# EAGLE library part CHIP_PRO_SMT (library CHIP_Pro-Footprint)
Advanced C.H.I.P Pro footprint, optimized for machine assembly, or reflow SMT. Short pads not recommended for hand-soldering.
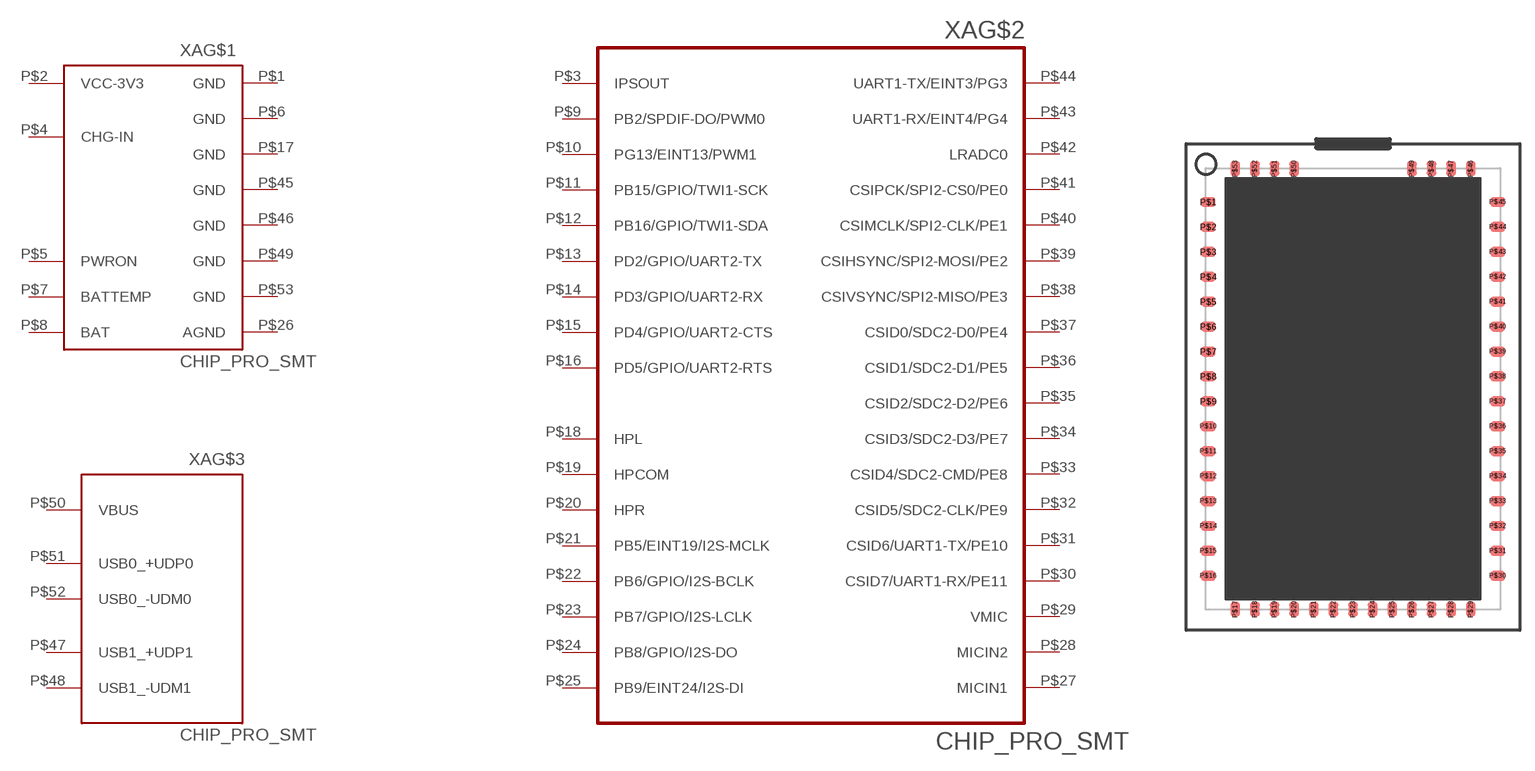
[diagram p1: symbol with the pads of CHIP_PRO_SMT; footprint CHIP_PRO_SMT]

Designator prefix XA; gates G$1=CHIPPRO-A G$2=CHIPPRO-B G$3=CHIPPRO-C

## CHIP_PRO_SMT*  [CHIP_PRO_SMT]
P$1  G$1:GND
P$2  G$1:VCC-3V3
P$3  G$2:IPSOUT
P$4  G$1:CHG-IN
P$5  G$1:PWRON
P$6  G$1:GND
P$7  G$1:BATTEMP
P$8  G$1:BAT
P$9  G$2:PB2/SPDIF-DO/PWM0
P$10  G$2:PG13/EINT13/PWM1
P$11  G$2:PB15/GPIO/TWI1-SCK
P$12  G$2:PB16/GPIO/TWI1-SDA
P$13  G$2:PD2/GPIO/UART2-TX
P$14  G$2:PD3/GPIO/UART2-RX
P$15  G$2:PD4/GPIO/UART2-CTS
P$16  G$2:PD5/GPIO/UART2-RTS
P$17  G$1:GND
P$18  G$2:HPL
P$19  G$2:HPCOM
P$20  G$2:HPR
P$21  G$2:PB5/EINT19/I2S-MCLK
P$22  G$2:PB6/GPIO/I2S-BCLK
P$23  G$2:PB7/GPIO/I2S-LCLK
P$24  G$2:PB8/GPIO/I2S-DO
P$25  G$2:PB9/EINT24/I2S-DI
P$26  G$1:AGND
P$27  G$2:MICIN1
P$28  G$2:MICIN2
P$29  G$2:VMIC
P$30  G$2:CSID7/UART1-RX/PE11
P$31  G$2:CSID6/UART1-TX/PE10
P$32  G$2:CSID5/SDC2-CLK/PE9
P$33  G$2:CSID4/SDC2-CMD/PE8
P$34  G$2:CSID3/SDC2-D3/PE7
P$35  G$2:CSID2/SDC2-D2/PE6
P$36  G$2:CSID1/SDC2-D1/PE5
P$37  G$2:CSID0/SDC2-D0/PE4
P$38  G$2:CSIVSYNC/SPI2-MISO/PE3
P$39  G$2:CSIHSYNC/SPI2-MOSI/PE2
P$40  G$2:CSIMCLK/SPI2-CLK/PE1
P$41  G$2:CSIPCK/SPI2-CS0/PE0
P$42  G$2:LRADC0
P$43  G$2:UART1-RX/EINT4/PG4
P$44  G$2:UART1-TX/EINT3/PG3
P$45  G$1:GND
P$46  G$1:GND
P$47  G$3:USB1_+UDP1
P$48  G$3:USB1_-UDM1
P$49  G$1:GND
P$50  G$3:VBUS
P$51  G$3:USB0_+UDP0
P$52  G$3:USB0_-UDM0
P$53  G$1:GND

## Footprint CHIP_PRO_SMT (pad centres in mm)
smd 1.5 x 1: P$1 -14.75,19.05; P$2 -14.75,16.51; P$3 -14.75,13.97; P$4 -14.75,11.43; P$5 -14.75,8.89; P$6 -14.75,6.35; P$7 -14.75,3.81; P$8 -14.75,1.27; P$9 -14.75,-1.27; P$10 -14.75,-3.81; P$11 -14.75,-6.35; P$12 -14.75,-8.89; P$13 -14.75,-11.43; P$14 -14.75,-13.97; P$15 -14.75,-16.51; P$16 -14.75,-19.05; P$30 14.75,-19.05; P$31 14.75,-16.51; P$32 14.75,-13.97; P$33 14.75,-11.43; P$34 14.75,-8.89; P$35 14.75,-6.35; P$36 14.75,-3.81; P$37 14.75,-1.27; P$38 14.75,1.27; P$39 14.75,3.81; P$40 14.75,6.35; P$41 14.75,8.89; P$42 14.75,11.43; P$43 14.75,13.97; P$44 14.75,16.51; P$45 14.75,19.05
smd 1 x 1.5: P$17 -12,-22.455; P$18 -10,-22.455; P$19 -8,-22.455; P$20 -6,-22.455; P$21 -4,-22.455; P$22 -2,-22.455; P$23 0,-22.455; P$24 2,-22.455; P$25 4,-22.455; P$26 6,-22.455; P$27 8,-22.455; P$28 10,-22.455; P$29 12,-22.455; P$46 12,22.455; P$47 10,22.455; P$48 8,22.455; P$49 6,22.455; P$50 -6,22.455; P$51 -8,22.455; P$52 -10,22.455; P$53 -12,22.455